# EAGLE library part OLED96X36 (library 1_USER)
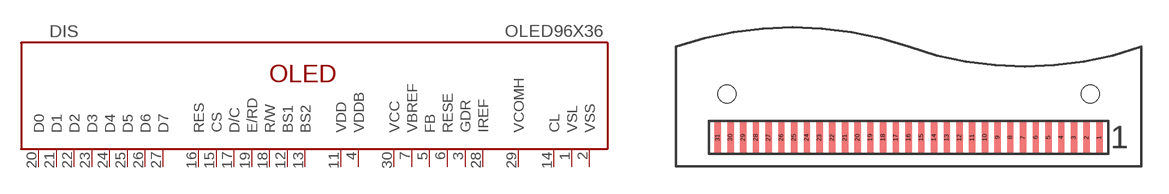
[diagram p12: symbol with the pads of OLED_ZIF_31; footprint OLED_ZIF_31]

Designator prefix DIS

## OLED96X36  [OLED_ZIF_31]
1  VSL
2  VSS
3  GDR
4  VDDB
5  FB
6  RESE  pwr
7  VBREF  pwr
11  VDD
12  BS1  in
13  BS2  in
14  CL
15  CS  in
16  RES  in
17  D/C  in
18  R/W  in
19  E/RD  in
20  D0
21  D1
22  D2
23  D3
24  D4
25  D5
26  D6
27  D7
28  IREF
29  VCOMH
30  VCC

## Footprint OLED_ZIF_31 (pad centres in mm)
smd 0.35 x 1.8: 1 10.5,0; 2 9.8,0; 3 9.1,0; 4 8.4,0; 5 7.7,0; 6 7,0; 7 6.3,0; 8 5.6,0; 9 4.9,0; 10 4.2,0; 11 3.5,0; 12 2.8,0; 13 2.1,0; 14 1.4,0; 15 0.7,0; 16 0,0; 17 -0.7,0; 18 -1.4,0; 19 -2.1,0; 20 -2.8,0; 21 -3.5,0; 22 -4.2,0; 23 -4.9,0; 24 -5.6,0; 25 -6.3,0; 26 -7,0; 27 -7.7,0; 28 -8.4,0; 29 -9.1,0; 30 -9.8,0; 31 -10.5,0
hole 1 at -10,2.4
hole 1 at 10,2.4